# Altium footprint library PcbLib.PcbLib: 26 footprints (part 2 of 2)
Each footprint in its own frame and in the unit in brackets; x right, y up, seen from the top. Pads: shape width x height; smd on the part's side, far side on the other; paste and mask are expansions set on the pad; w line width, h text height; cw(c..) or ccw(c..) is an arc to the next point about the centre after c.
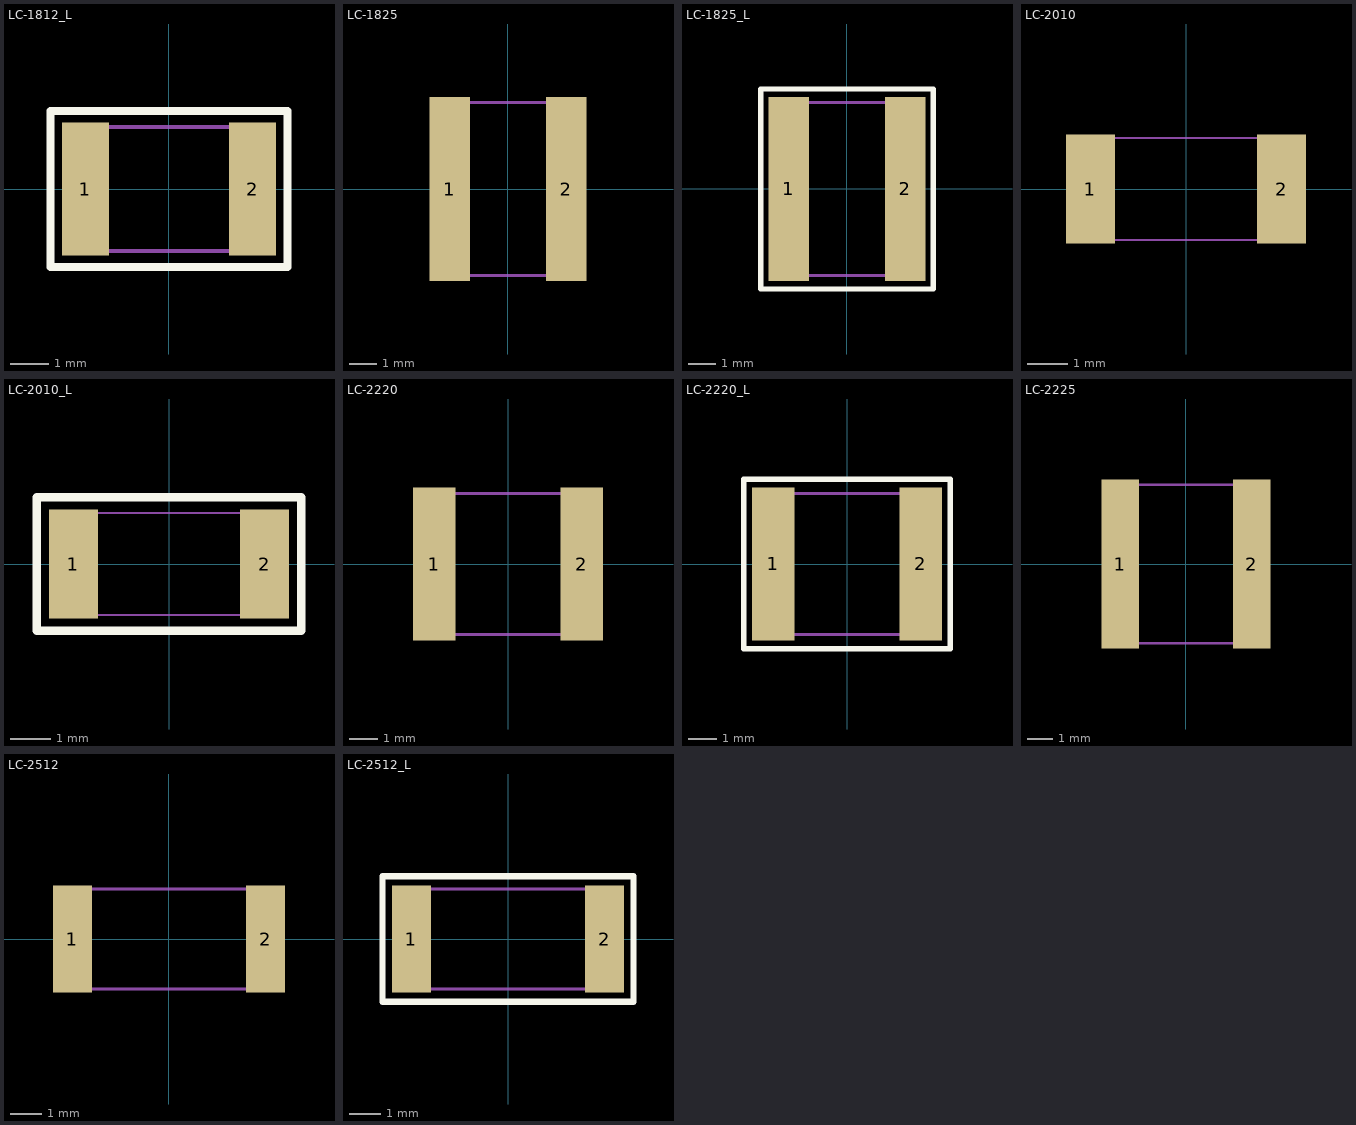
[diagram p1: the footprints below, top view; thin cyan lines are the x and y axes]

## LC-1812_L [mm]
pads (2):
  rect 1.2x3.42 smd: 1(-2.15,0) 2(2.15,0)
Top Overlay:
  lines w0.2: -3.05,-2.01 -3.05,2.01 3.05,2.01 3.05,-2.01 -3.05,-2.01
Mechanical 13:
  lines w0.1: -2.25,-1.6 -2.25,1.6 2.25,1.6 2.25,-1.6 -2.25,-1.6

## LC-1825 [mm]
pads (2):
  rect 1.5x6.81 smd: 1(-2.15,0) 2(2.15,0)
Mechanical 13:
  lines w0.1: -2.3,-3.2 -2.3,3.2 2.3,3.2 2.3,-3.2 -2.3,-3.2

## LC-1825_L [mm]
pads (2):
  rect 1.5x6.81 smd: 1(-2.15,0) 2(2.15,0)
Top Overlay:
  lines w0.2: -3.2,-3.705 3.2,-3.705 3.2,3.705 -3.2,3.705 -3.2,-3.705
Mechanical 13:
  lines w0.1: -2.3,-3.2 -2.3,3.2 2.3,3.2 2.3,-3.2 -2.3,-3.2

## LC-2010 [mm]
pads (2):
  rect 1.2x2.67 smd: 1(-2.34,0) 2(2.34,0)
Mechanical 13:
  lines w0.05: -2.5,-1.25 2.5,-1.25 2.5,1.25 -2.5,1.25 -2.5,-1.25

## LC-2010_L [mm]
pads (2):
  rect 1.2x2.67 smd: 1(-2.34,0) 2(2.34,0)
Top Overlay:
  lines w0.2: -3.24,-1.635 -3.24,1.635 3.24,1.635 3.24,-1.635 -3.24,-1.635
Mechanical 13:
  lines w0.05: -2.5,-1.25 -2.5,1.25 2.5,1.25 2.5,-1.25 -2.5,-1.25

## LC-2220 [mm]
pads (2):
  rect 1.5x5.42 smd: 1(-2.62,0) 2(2.62,0)
Mechanical 13:
  lines w0.1: -2.9,-2.5 2.9,-2.5 2.9,2.5 -2.9,2.5 -2.9,-2.5

## LC-2220_L [mm]
pads (2):
  rect 1.5x5.42 smd: 1(-2.62,0) 2(2.62,0)
Top Overlay:
  lines w0.2: -3.67,-3.01 -3.67,3.01 3.67,3.01 3.67,-3.01 -3.67,-3.01
Mechanical 13:
  lines w0.1: -2.9,-2.5 2.9,-2.5 2.9,2.5 -2.9,2.5 -2.9,-2.5

## LC-2225 [mm]
pads (2):
  rect 1.5x6.72 smd: 1(-2.62,0) 2(2.62,0)
Mechanical 13:
  lines w0.1: -2.85,-3.15 2.85,-3.15 2.85,3.15 -2.85,3.15 -2.85,-3.15

## LC-2512 [mm]
pads (2):
  rect 1.25x3.42 smd: 1(-3.1,0) 2(3.1,0)
Mechanical 13:
  lines w0.1: -3.15,-1.6 -3.15,1.6 3.15,1.6 3.15,-1.6 -3.15,-1.6

## LC-2512_L [mm]
pads (2):
  rect 1.25x3.42 smd: 1(-3.1,0) 2(3.1,0)
Top Overlay:
  lines w0.2: -4.025,-2.01 -4.025,2.01 4.025,2.01 4.025,-2.01 -4.025,-2.01
Mechanical 13:
  lines w0.1: -3.15,-1.6 -3.15,1.6 3.15,1.6 3.15,-1.6 -3.15,-1.6